# EAGLE library part MICROCHIP-MCP2200 (library eq_Control_Board)
USB 2.0 to UART Protocol Converter with GPIO
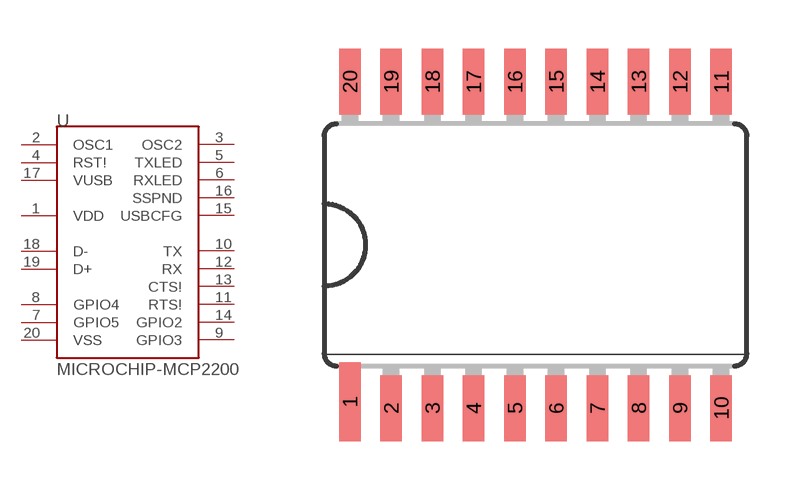
[diagram p4: symbol with the pads of SO-20; footprint SO-20]

Designator prefix -

## MICROCHIP-MCP2200  [SO-20]
1  VDD
2  OSC1
3  OSC2
4  RST!
5  TXLED
6  RXLED
7  GPIO5
8  GPIO4
9  GPIO3
10  TX
11  RTS!
12  RX
13  CTS!
14  GPIO2
15  USBCFG
16  SSPND
17  VUSB
18  D-
19  D+
20  VSS

## Footprint SO-20 (pad centres in mm)
smd 0.66 x 2.432: 1 -5.715,-4.829
smd 0.66 x 2.032: 2 -4.445,-5.029; 3 -3.175,-5.029; 4 -1.905,-5.029; 5 -0.635,-5.029; 6 0.635,-5.029; 7 1.905,-5.029; 8 3.175,-5.029; 9 4.445,-5.029; 10 5.715,-5.029; 11 5.715,5.029; 12 4.445,5.029; 13 3.175,5.029; 14 1.905,5.029; 15 0.635,5.029; 16 -0.635,5.029; 17 -1.905,5.029; 18 -3.175,5.029; 19 -4.445,5.029; 20 -5.715,5.029